# EAGLE library part TMUX1208 (library Group_09_Library)
TMUX1208 The TMUX1208 is a general purpose complementary metal-oxide semiconductor (CMOS) multiplexer (MUX). The TMUX1208 offers 8:1 single ended channels. Wide operating supply of 1.08 V to 5.5 V allows for use in a broad array of applications from personal electronics to building automation applications. The device supports bidirectional analog and digital signals on the source (Sx) and drain (D) pins ranging from GND to VDD. All logic inputs have 1.8 V logic compatible thresholds, ensuring both TTL and CMOS logic compatibility when operating in the valid supply voltage range. Fail-Safe Logic circuitry allows voltages on the control pins to be applied before the supply pin, protecting the device from potential damage. Available packages: QFN(16)
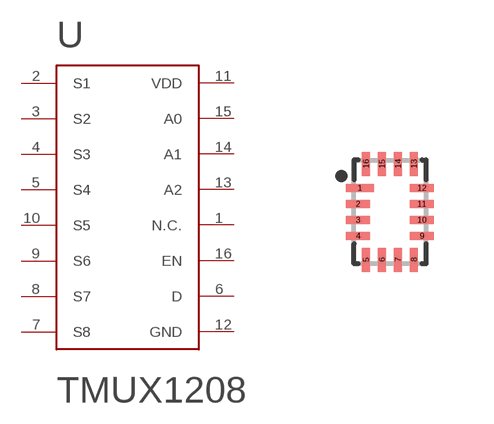
[diagram p0: symbol with the pads of QFN-16; footprint QFN-16]

Designator prefix -

## TMUX1208QNF  [QFN-16]
1  N.C.
2  S1
3  S2
4  S3
5  S4
6  D
7  S8
8  S7
9  S6
10  S5
11  VDD
12  GND
13  A2
14  A1
15  A0
16  EN

## Footprint QFN-16 (pad centres in mm)
smd 0.7 x 0.2: 1 -0.75,0.6
smd 0.6 x 0.2: 2 -0.8,0.2; 3 -0.8,-0.2; 4 -0.8,-0.6; 9 0.8,-0.6; 10 0.8,-0.2; 11 0.8,0.2; 12 0.8,0.6
smd 0.2 x 0.6: 5 -0.6,-1.2; 6 -0.2,-1.2; 7 0.2,-1.2; 8 0.6,-1.2; 13 0.6,1.2; 14 0.2,1.2; 15 -0.2,1.2; 16 -0.6,1.2